# EAGLE library part IS61WV5128EDBLL (library Ilya_Teach)
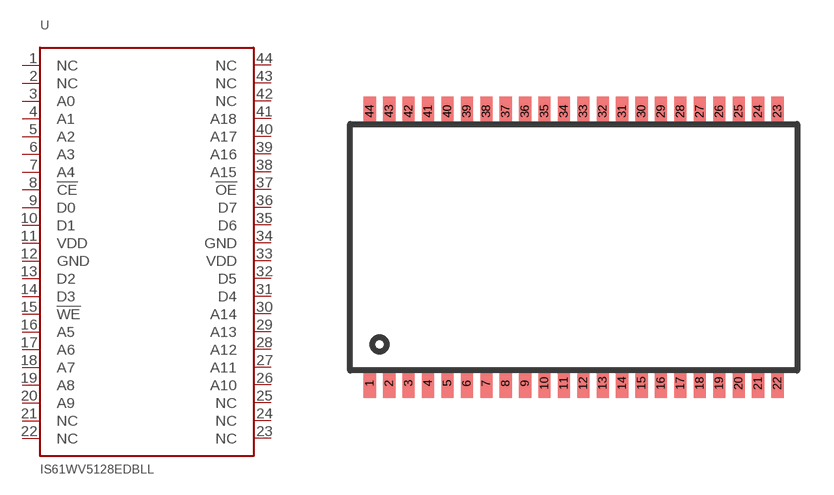
[diagram p14: symbol with the pads of TSOP44; footprint TSOP44]

Designator prefix -

## IS61WV5128EDBLL  [TSOP44]
1  NC
2  NC
3  A0
4  A1
5  A2
6  A3
7  A4
8  !CE
9  D0
10  D1
11  VDD
12  GND
13  D2
14  D3
15  !WE
16  A5
17  A6
18  A7
19  A8
20  A9
21  NC
22  NC
23  NC
24  NC
25  NC
26  A10
27  A11
28  A12
29  A13
30  A14
31  D4
32  D5
33  VDD
34  GND
35  D6
36  D7
37  !OE
38  A15
39  A16
40  A17
41  A18
42  NC
43  NC
44  NC

## Footprint TSOP44 (pad centres in mm)
smd 0.5 x 1.2: 1 -8.4,-5.605; 2 -7.6,-5.605; 3 -6.8,-5.605; 4 -6,-5.605; 5 -5.2,-5.605; 6 -4.4,-5.605; 7 -3.6,-5.605; 8 -2.8,-5.605; 9 -2,-5.605; 10 -1.2,-5.605; 11 -0.4,-5.605; 12 0.4,-5.605; 13 1.2,-5.605; 14 2,-5.605; 15 2.8,-5.605; 16 3.6,-5.605; 17 4.4,-5.605; 18 5.2,-5.605; 19 6,-5.605; 20 6.8,-5.605; 21 7.6,-5.605; 22 8.4,-5.605; 23 8.4,5.605; 24 7.6,5.605; 25 6.8,5.605; 26 6,5.605; 27 5.2,5.605; 28 4.4,5.605; 29 3.6,5.605; 30 2.8,5.605; 31 2,5.605; 32 1.2,5.605; 33 0.4,5.605; 34 -0.4,5.605; 35 -1.2,5.605; 36 -2,5.605; 37 -2.8,5.605; 38 -3.6,5.605; 39 -4.4,5.605; 40 -5.2,5.605; 41 -6,5.605; 42 -6.8,5.605; 43 -7.6,5.605; 44 -8.4,5.605